# EAGLE library part TPD4S012_DRY_6 (library fabhack)
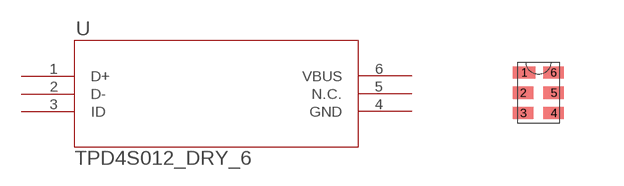
[diagram p5: symbol with the pads of DRY6; footprint DRY6]

Designator prefix U

## TPD4S012_DRY_6  [DRY6]
1  D+  pas
2  D-  pas
3  ID  pas
4  GND  pas
5  N.C.  pas
6  VBUS  pas

## Footprint DRY6 (pad centres in mm)
smd 0.559 x 0.305: 1 -0.356,0.508
smd 0.508 x 0.305: 2 -0.381,0; 3 -0.381,-0.508; 4 0.381,-0.508; 5 0.381,0; 6 0.381,0.508